# EAGLE library part LED6001 (library parts)
PWM-dimmable single channel LED driver with integrated boost controller
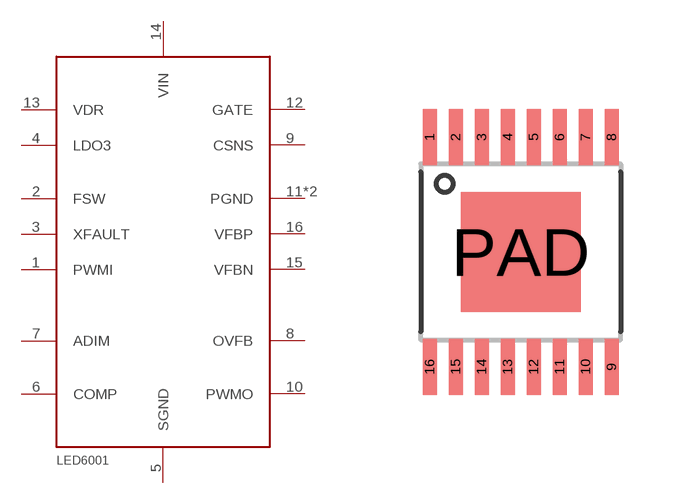
[diagram p0: symbol with the pads of HTSSOP-16; footprint HTSSOP-16]

Designator prefix IC

## LED6001  [HTSSOP-16]
1  PWMI
2  FSW
3  XFAULT
4  LDO3
5  SGND
6  COMP
7  ADIM
8  OVFB
9  CSNS
10  PWMO
11  PGND
12  GATE
13  VDR
14  VIN
15  VFBN
16  VFBP
PAD  PGND

## Footprint HTSSOP-16 (pad centres in mm)
smd 0.35 x 1.4: 1 -2.275,2.875; 2 -1.625,2.875; 3 -0.975,2.875; 4 -0.325,2.875; 5 0.325,2.875; 6 0.975,2.875; 7 1.625,2.875; 8 2.275,2.875; 9 2.275,-2.875; 10 1.625,-2.875; 11 0.975,-2.875; 12 0.325,-2.875; 13 -0.325,-2.875; 14 -0.975,-2.875; 15 -1.625,-2.875; 16 -2.275,-2.875
smd 3 x 3: PAD 0,0